# Altium footprint library SX1308_GTW_e381v02c.PcbLib: 73 footprints (part 2 of 5)
Each footprint in its own frame and in the unit in brackets; x right, y up, seen from the top. Pads: shape width x height; smd on the part's side, far side on the other; paste and mask are expansions set on the pad; w line width, h text height; cw(c..) or ccw(c..) is an arc to the next point about the centre after c.
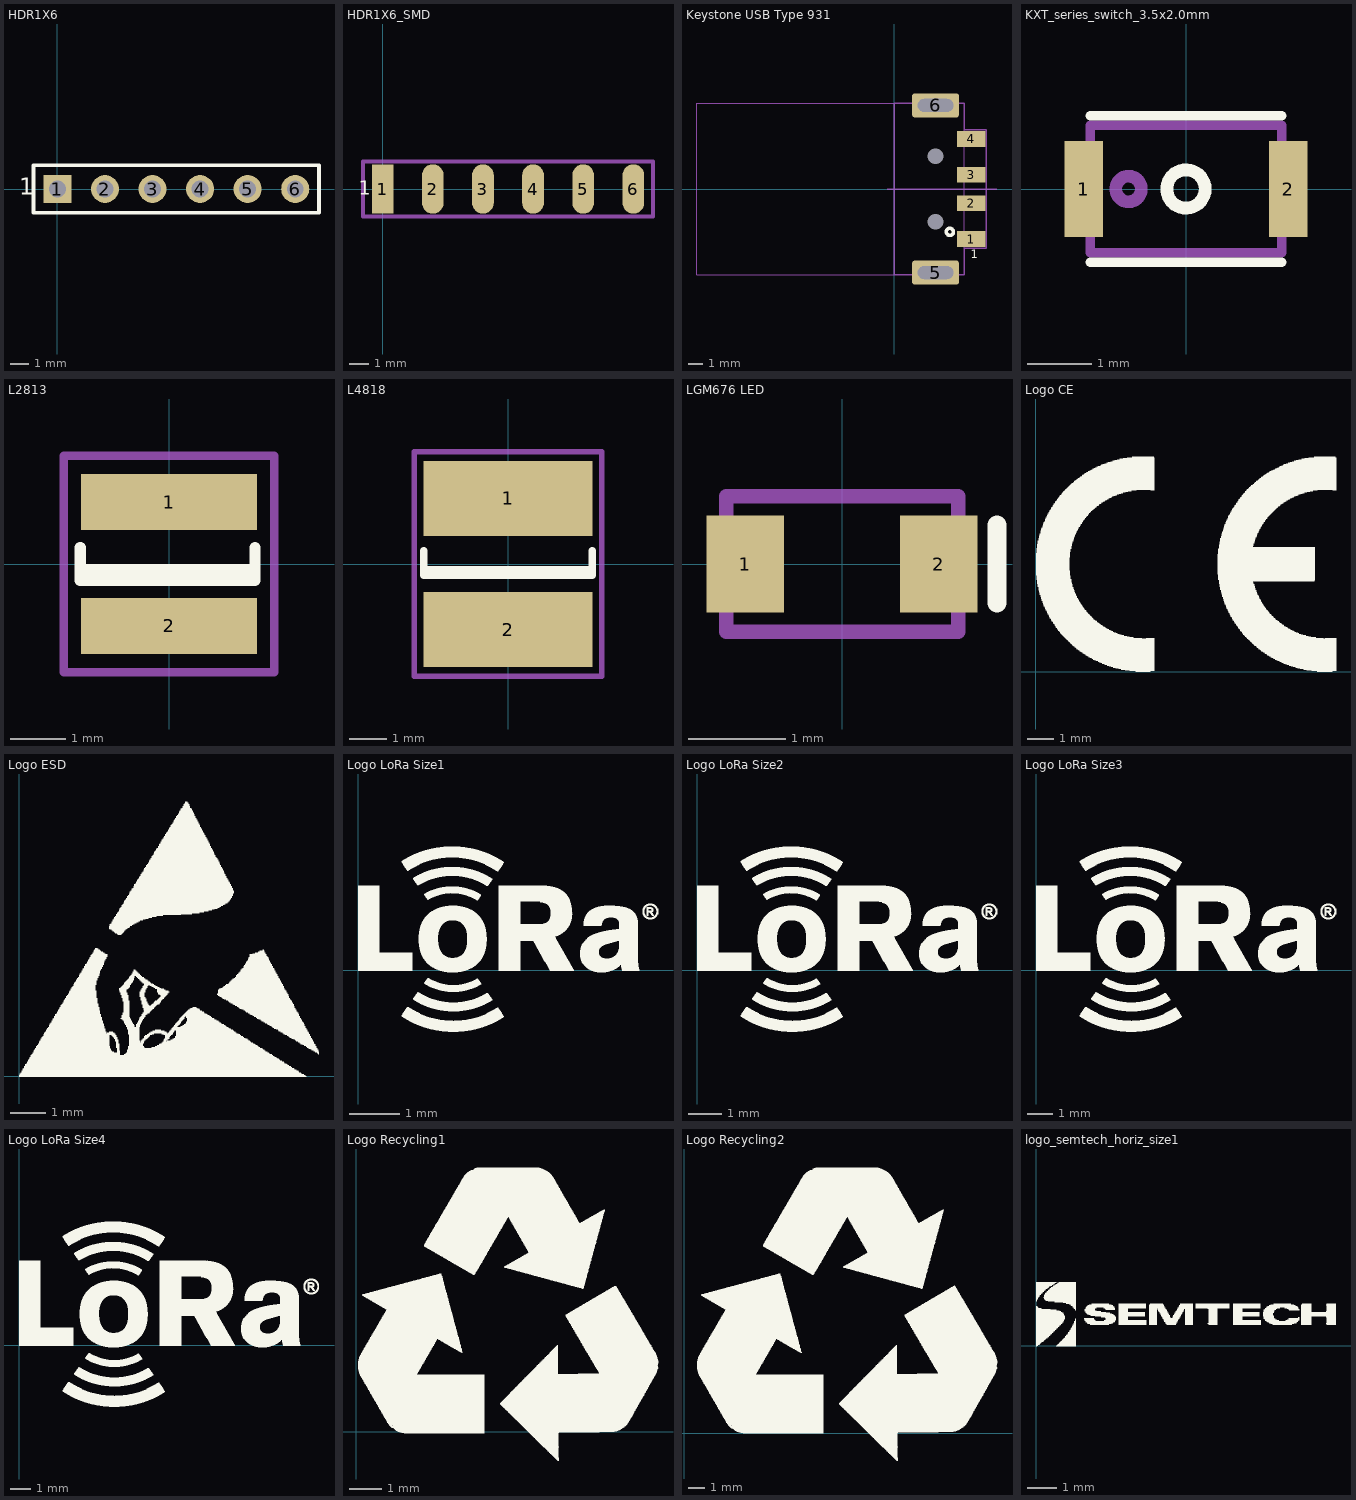
[diagram p1: the footprints below, top view; thin cyan lines are the x and y axes]

## HDR1X6 [mm] "Connector; Header; 6 Position"
pads (6):
  rect 1.5x1.5 hole 0.9: 1(0,0)
  round 1.5 hole 0.9: 2(2.54,0) 3(5.08,0) 4(7.62,0) 5(10.16,0) 6(12.7,0)
Top Overlay:
  lines w0.2: -1.27,-1.27 -1.27,1.27 13.97,1.27 13.97,-1.27 -1.27,-1.27
  text "1" at -2.05,-0.3 h0.9

## HDR1X6_SMD [mm] "Connector; Header; 6 Position; SMD"
height 10
pads (6):
  rrect10% 1.1x2.5 smd paste-3 mask+0.05: 1(0,0)
  oval 1.1x2.5 smd paste-3 mask+0.05: 2(2.54,0) 3(5.08,0) 4(7.62,0) 5(10.16,0) 6(12.7,0)
Top Overlay:
  text "1" at -1.2,-0.3 h0.7
Mechanical 15:
  lines w0.2: -1,-1.4 13.7,-1.4 13.7,1.4 -1,1.4 -1,-1.4

## Keystone USB Type 931 [mm] "Connector Keystone; USB 2.0, Type A, SM; 4Position; Right Angle"
height 4.6
pads (8):
  rect 2x1.1 smd mask+0.05: 1(5.4,-3.5) 2(5.4,-1) 3(5.4,1) 4(5.4,3.5)
  rrect25% 3.3x1.7 / inner rrect25% 3.1x1.5 / far side rrect25% 4x2 hole 0.9 slot 2.5 at 0 deg paste-2 mask+0.05: 5(2.9,-5.85) 6(2.9,5.85)
  round 0 hole 1.1 unplated mask+0.05: NPTH1(2.9,2.3)
  round 0 hole 1.1 unplated paste+0 mask+0.05: NPTH2(2.9,-2.3)
Top Overlay:
  circle w0.25: c3.9,-3 r0.25
  text "1" at 5.35,-4.85 h0.6
Mechanical 15:
  lines w0.05: -13.8,-6 4.9,-6 4.9,6 -13.8,6 -13.8,-6
  lines w0.1: -0.5,0 7.2,0 ; 0,-6 0,6 4.9,6 4.9,4.15 6.45,4.15 6.45,-4.15 4.9,-4.15 4.9,-6 0,-6
  text "PCB edge" at 0.4,2.1 h0.6
3D body: height 0.8, standoff 0.2, extent 0.15,-6 6.45,6

## KXT_series_switch_3.5x2.0mm [mm] "Single pole switch; Body 3.5x 2.0 mm (LxW typ)"
height 8
pads (2):
  rect 0.6x1.5 smd paste+0 mask+0.05: 1(-1.6,0) 2(1.6,0)
Top Overlay:
  circle w0.2: c0,0 r0.3
  lines w0.15: -1.5,-1.15 1.5,-1.15 ; -1.5,1.15 1.5,1.15
Mechanical 15:
  circle w0.2: c-0.9,0 r0.2
  lines w0.15: -1.5,-1 -1.5,1 1.5,1 1.5,-1 -1.5,-1
3D body: height 0.8, standoff 0.2, extent -1.5,-1 1.5,1

## L2813 [mil] "L2813"
height 196.85
pads (2):
  rect 125x40 smd mask+1.97: 1(0,44) 2(0,-44)
Top Overlay:
  lines w7.87: -62.99,-3.94 61.02,-3.94 ; -62.99,11.81 -62.99,-11.81 61.02,-11.81 61.02,11.81
Mechanical 15:
  lines w5.91: -74.8,-76.77 -74.8,76.77 74.8,76.77 74.8,-76.77 -74.8,-76.77

## L4818 [mm] "L4818 Size for LPS4018"
height 2
pads (2):
  rect 4.5x2 smd mask+0.05: 1(0,1.753) 2(0,-1.753)
Top Overlay:
  lines w0.2: -2.25,-0.15 2.25,-0.15 ; -2.25,0.35 -2.25,-0.3 2.25,-0.3 2.25,0.35
Mechanical 15:
  lines w0.15: -2.5,-3 2.5,-3 2.5,3 -2.5,3 -2.5,-3

## LGM676 LED [mm] "Chip Diode; Body 2.1 x 1.4 mm (LxW typ)"
height 1.1
pads (2):
  rect 0.8x1 smd mask+0.05: 1(-1,0) 2(1,0)
Top Overlay:
  lines w0.2: 1.6,-0.4 1.6,0.4
Mechanical 15:
  lines w0.15: -1.2,-0.7 1.2,-0.7 1.2,0.7 -1.2,0.7 -1.2,-0.7
3D body: height 12, standoff 0, extent -1.2,-0.7 1.2,0.7

## Logo CE [mm] "Logo CE"
height 0.1
Top Overlay:
  drawing of 654 lines, arcs and shapes, not listed

## Logo ESD [mm] "Logo ESD"
height 0.1
Top Overlay:
  drawing of 682 lines, arcs and shapes, not listed

## Logo LoRa Size1 [mm] "Logo LoRa Size1 - Top Overlay - 6x4mm - Registered"
Top Overlay:
  drawing of 1298 lines, arcs and shapes, not listed

## Logo LoRa Size2 [mm] "Logo LoRa Size2 - Top Overlay - 9x5.5mm - Registered"
Top Overlay:
  drawing of 1298 lines, arcs and shapes, not listed

## Logo LoRa Size3 [mm] "Logo LoRa Size3 - Top Overlay - 14.5x8mm - Registered"
Top Overlay:
  drawing of 1298 lines, arcs and shapes, not listed
3D body: height 0.8, standoff 0.1, extent 2.3,-0.1 5.25,2.65

## Logo LoRa Size4 [mm] "Logo LoRa Size4 - Top Overlay - 18x9.5mm - Registered"
Top Overlay:
  drawing of 1298 lines, arcs and shapes, not listed

## Logo Recycling1 [mm] "Logo Recycling1"
height 0.1
Top Overlay:
  drawing of 3302 lines, arcs and shapes, not listed

## Logo Recycling2 [mm] "Logo Recycling2"
height 0.1
Top Overlay:
  drawing of 3309 lines, arcs and shapes, not listed

## logo_semtech_horiz_size1 [mm] "Logo semtech horizontal - size1 - S"
Top Overlay:
  drawing of 453 lines, arcs and shapes, not listed